# EAGLE library part 74*198 (library 74xx-eu)
8-bit SHIFT REGISTER
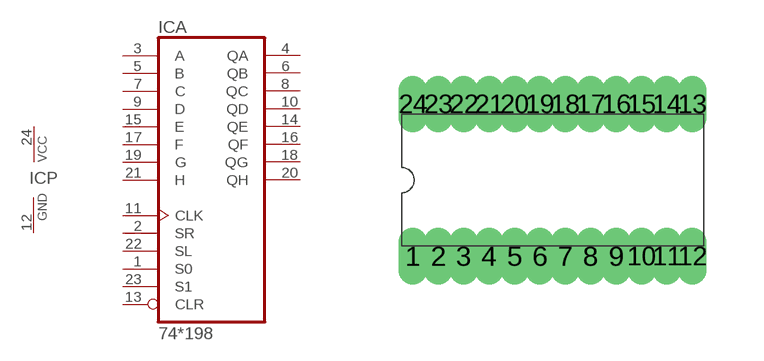
[diagram p135: symbol with the pads of DIL24-6; footprint DIL24-6]

Designator prefix IC; gates A=74198 P=PWRN

## 74198N  [DIL24-6]
1  A:S0  in
2  A:SR  in
3  A:A  in
4  A:QA  out
5  A:B  in
6  A:QB  out
7  A:C  in
8  A:QC  out
9  A:D  in
10  A:QD  out
11  A:CLK  in
12  P:GND  pwr
13  A:CLR  in
14  A:QE  out
15  A:E  in
16  A:QF  out
17  A:F  in
18  A:QG  out
19  A:G  in
20  A:QH  out
21  A:H  in
22  A:SL  in
23  A:S1  in
24  P:VCC  pwr

## Footprint DIL24-6 (pad centres in mm)
Dual In Line Package 0.6 inch
drill 0.203 long: 1 -3.493,-1.905; 2 -2.857,-1.905; 3 -2.223,-1.905; 4 -1.587,-1.905; 5 -0.953,-1.905; 6 -0.318,-1.905; 7 0.318,-1.905; 8 0.953,-1.905; 9 1.587,-1.905; 10 2.223,-1.905; 11 2.857,-1.905; 12 3.493,-1.905; 13 3.493,1.905; 14 2.857,1.905; 15 2.223,1.905; 16 1.587,1.905; 17 0.953,1.905; 18 0.318,1.905; 19 -0.318,1.905; 20 -0.953,1.905; 21 -1.587,1.905; 22 -2.223,1.905; 23 -2.857,1.905; 24 -3.493,1.905